# Altium schematic symbol library MB85RC64_FRAM.SchLib: 1 symbol
Pins are listed as number, name and electrical type; pins without a type are passive.

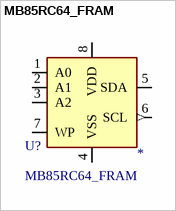
[diagram p0: symbol MB85RC64_FRAM]

## MB85RC64_FRAM
designator U?
MB85RC64_FRAM - SOP-8  FRAM ROHS; LCSC: *
footprint MB85RC64_FRAM
pins: 1 A0, 2 A1, 3 A2, 4 VSS (power), 5 SDA (io), 6 SCL (out), 7 WP, 8 VDD (power)